# Altium footprint library DPAK.PcbLib: 9 footprints
Each footprint in its own frame and in the unit in brackets; x right, y up, seen from the top. Pads: shape width x height; smd on the part's side, far side on the other; paste and mask are expansions set on the pad; w line width, h text height; cw(c..) or ccw(c..) is an arc to the next point about the centre after c.
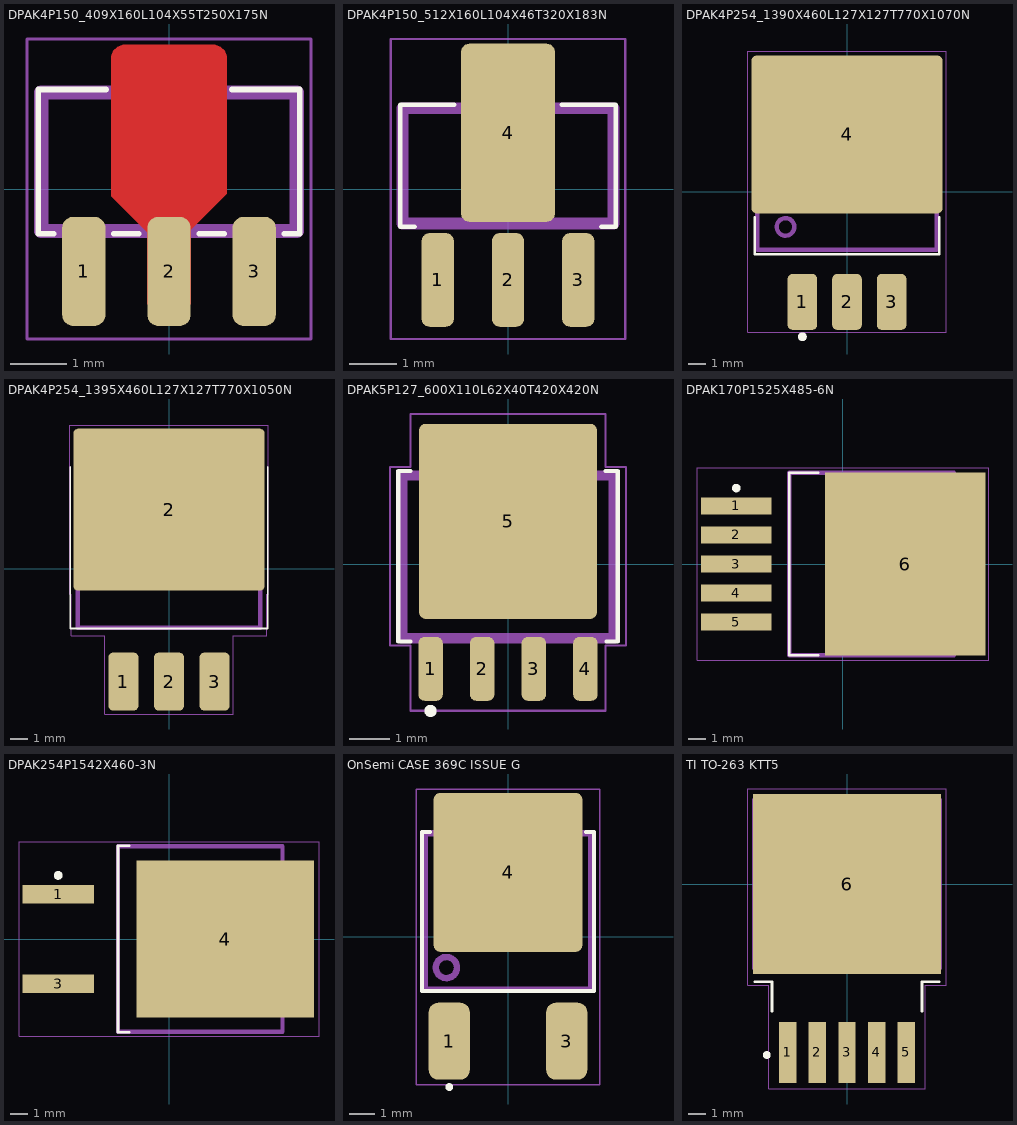
[diagram p0: the footprints below, top view; thin cyan lines are the x and y axes]

## DPAK4P150_409X160L104X55T250X175N [mm] "DPAK, 1.50 mm pitch; 3 pin, 2.44 mm L X 4.50 mm W X 1.60 mm H body"
height 1.6
pads (3):
  rrect50% 0.76x1.92 smd: 1(-1.5,-1.45) 2(0,-1.45) 3(1.5,-1.45)
Top Layer:
  region: -0.381,-2.032 -0.381,-0.762 -1.016,-0.127 -1.016,2.286 -1.016,2.337 -0.977,2.43 -0.906,2.501 -0.813,2.54 -0.762,2.54 0.762,2.54 0.813,2.54 0.906,2.501 0.977,2.43 1.016,2.337 1.016,2.286 1.016,-0.084 0.381,-0.719 0.381,-2.032
Top Overlay:
  lines w0.1: -2.03,-0.79 -2.3,-0.79 -2.3,1.75 -1.11,1.75 ; -0.97,-0.79 -0.53,-0.79 ; 0.53,-0.79 0.97,-0.79 ; 1.11,1.75 2.3,1.75 2.3,-0.79 2.03,-0.79
Top Assembly:
  lines w0.25: -2.25,-0.74 2.25,-0.74 2.25,1.7 -2.25,1.7 -2.25,-0.74
  text ".Designator" at -2,0 h1.5
Top Courtyard:
  circle w0.05: c0,0 r0.25
  lines w0.05: -0.35,0 0.35,0 ; 0,-0.35 0,0.35 ; -2.5,-2.64 -2.5,2.64 2.5,2.64 2.5,-2.64 -2.5,-2.64
3D body "DPAK4P150_409X160L104X55T250X175.STEP": height 1.6, standoff 0, extent -2.25,-2.045 2.25,2.045

## DPAK4P150_512X160L104X46T320X183N [mm] "DPAK, 1.50 mm pitch; 3 pin, 2.45 mm L X 4.50 mm W X 1.60 mm H body"
height 1.6
pads (4):
  rrect49% 0.69x2 smd: 1(-1.5,-1.94) 2(0,-1.94) 3(1.5,-1.94)
  rrect17% 2x3.8 smd paste-3.73: 4(0,1.2)
Top Overlay:
  lines w0.1: -1.995,-0.805 -2.3,-0.805 -2.3,1.795 -1.15,1.795 ; 1.15,1.795 2.3,1.795 2.3,-0.805 1.995,-0.805
Top Assembly:
  lines w0.25: -2.25,-0.735 -2.25,1.725 2.25,1.725 2.25,-0.735 -2.25,-0.735
  text ".Designator" at -1.9,0 h1.5
Top Courtyard:
  circle w0.05: c0,0 r0.25
  lines w0.05: -0.35,0 0.35,0 ; 0,-0.35 0,0.35 ; -2.5,-3.2 -2.5,3.2 2.5,3.2 2.5,-3.2 -2.5,-3.2
3D body "DPAK4P150_512X160L104X46T320X183.STEP": height 1.6, standoff 0, extent -2.25,-2.562 2.25,2.562

## DPAK4P254_1390X460L127X127T770X1070N [mm] "DPAK, 2.54 mm pitch; 3 pin, 8.90 mm L X 10.20 mm W X 4.60 mm H body"
height 4.6
pads (4):
  rrect30% 1.68x3.17 smd: 1(-2.54,-6.27) 2(0,-6.27) 3(2.54,-6.27)
  rrect6% 10.87x8.98 smd paste-10.87: 4(0,3.26)
Top Overlay:
  circle w0.25: c-2.54,-8.255 r0.125
  lines w0.15: -5.25,-1.455 -5.25,-3.56 5.25,-3.56 5.25,-1.455
Top Paste:
  region: 5.19,-0.95 3.86,-0.95 3.86,0.27 5.19,0.27
  region: 5.19,0.85 3.86,0.85 3.86,2.07 5.19,2.07
  region: 5.19,2.65 3.86,2.65 3.86,3.87 5.19,3.87
  region: 5.19,4.45 3.86,4.45 3.86,5.67 5.19,5.67
  region: 5.19,6.25 3.86,6.25 3.86,7.47 5.19,7.47
  region: 3.38,-0.95 2.05,-0.95 2.05,0.27 3.38,0.27
  region: 3.38,0.85 2.05,0.85 2.05,2.07 3.38,2.07
  region: 3.38,2.65 2.05,2.65 2.05,3.87 3.38,3.87
  region: 3.38,4.45 2.05,4.45 2.05,5.67 3.38,5.67
  region: 3.38,6.25 2.05,6.25 2.05,7.47 3.38,7.47
  region: 1.57,-0.95 0.24,-0.95 0.24,0.27 1.57,0.27
  region: 1.57,0.85 0.24,0.85 0.24,2.07 1.57,2.07
  region: 1.57,2.65 0.24,2.65 0.24,3.87 1.57,3.87
  region: 1.57,4.45 0.24,4.45 0.24,5.67 1.57,5.67
  region: 1.57,6.25 0.24,6.25 0.24,7.47 1.57,7.47
  region: -0.24,-0.95 -1.57,-0.95 -1.57,0.27 -0.24,0.27
  region: -0.24,0.85 -1.57,0.85 -1.57,2.07 -0.24,2.07
  region: -0.24,2.65 -1.57,2.65 -1.57,3.87 -0.24,3.87
  region: -0.24,4.45 -1.57,4.45 -1.57,5.67 -0.24,5.67
  region: -0.24,6.25 -1.57,6.25 -1.57,7.47 -0.24,7.47
  region: -2.05,-0.95 -3.38,-0.95 -3.38,0.27 -2.05,0.27
  region: -2.05,0.85 -3.38,0.85 -3.38,2.07 -2.05,2.07
  region: -2.05,2.65 -3.38,2.65 -3.38,3.87 -2.05,3.87
  region: -2.05,4.45 -3.38,4.45 -3.38,5.67 -2.05,5.67
  region: -2.05,6.25 -3.38,6.25 -3.38,7.47 -2.05,7.47
  region: -3.86,-0.95 -5.19,-0.95 -5.19,0.27 -3.86,0.27
  region: -3.86,0.85 -5.19,0.85 -5.19,2.07 -3.86,2.07
  region: -3.86,2.65 -5.19,2.65 -5.19,3.87 -3.86,3.87
  region: -3.86,4.45 -5.19,4.45 -5.19,5.67 -3.86,5.67
  region: -3.86,6.25 -5.19,6.25 -5.19,7.47 -3.86,7.47
Top Assembly:
  circle w0.25: c-3.5,-2 r0.5
  lines w0.25: -5.1,-3.31 5.1,-3.31 5.1,5.59 -5.1,5.59 -5.1,-3.31
  text ".Designator" at 0,0 h1.2
Top Courtyard:
  circle w0.05: c0,0 r0.25
  lines w0.05: -0.35,0 0.35,0 ; 0,-0.35 0,0.35 ; -5.64,-8.01 -5.64,8.01 5.64,8.01 5.64,-8.01 -5.64,-8.01
3D body "DPAK4P254_1390X460L127X127T770X1070.STEP": height 4.6, standoff 0, extent -5.35,-6.95 5.35,6.95

## DPAK4P254_1395X460L127X127T770X1050N [mm] "DPAK, 2.54 mm pitch; 3 pin, 8.90 mm L X 10.20 mm W X 4.60 mm H body"
height 4.6
pads (4):
  rrect30% 1.68x3.22 smd: 1(-2.54,-6.29) 2(0,-6.29) 3(2.54,-6.29)
  rrect6% 10.67x9.03 smd paste-10.67: 2(0,3.29)
Top Overlay:
  lines w0.1: -5.5,5.666 -5.5,-3.334 5.5,-3.334 5.5,5.666
Top Paste:
  region: 5.1,-0.925 3.8,-0.925 3.8,0.305 5.1,0.305
  region: 5.1,0.875 3.8,0.875 3.8,2.105 5.1,2.105
  region: 5.1,2.675 3.8,2.675 3.8,3.905 5.1,3.905
  region: 5.1,4.475 3.8,4.475 3.8,5.705 5.1,5.705
  region: 5.1,6.275 3.8,6.275 3.8,7.505 5.1,7.505
  region: 3.32,-0.925 2.02,-0.925 2.02,0.305 3.32,0.305
  region: 3.32,0.875 2.02,0.875 2.02,2.105 3.32,2.105
  region: 3.32,2.675 2.02,2.675 2.02,3.905 3.32,3.905
  region: 3.32,4.475 2.02,4.475 2.02,5.705 3.32,5.705
  region: 3.32,6.275 2.02,6.275 2.02,7.505 3.32,7.505
  region: 1.54,-0.925 0.24,-0.925 0.24,0.305 1.54,0.305
  region: 1.54,0.875 0.24,0.875 0.24,2.105 1.54,2.105
  region: 1.54,2.675 0.24,2.675 0.24,3.905 1.54,3.905
  region: 1.54,4.475 0.24,4.475 0.24,5.705 1.54,5.705
  region: 1.54,6.275 0.24,6.275 0.24,7.505 1.54,7.505
  region: -0.24,-0.925 -1.54,-0.925 -1.54,0.305 -0.24,0.305
  region: -0.24,0.875 -1.54,0.875 -1.54,2.105 -0.24,2.105
  region: -0.24,2.675 -1.54,2.675 -1.54,3.905 -0.24,3.905
  region: -0.24,4.475 -1.54,4.475 -1.54,5.705 -0.24,5.705
  region: -0.24,6.275 -1.54,6.275 -1.54,7.505 -0.24,7.505
  region: -2.02,-0.925 -3.32,-0.925 -3.32,0.305 -2.02,0.305
  region: -2.02,0.875 -3.32,0.875 -3.32,2.105 -2.02,2.105
  region: -2.02,2.675 -3.32,2.675 -3.32,3.905 -2.02,3.905
  region: -2.02,4.475 -3.32,4.475 -3.32,5.705 -2.02,5.705
  region: -2.02,6.275 -3.32,6.275 -3.32,7.505 -2.02,7.505
  region: -3.8,-0.925 -5.1,-0.925 -5.1,0.305 -3.8,0.305
  region: -3.8,0.875 -5.1,0.875 -5.1,2.105 -3.8,2.105
  region: -3.8,2.675 -5.1,2.675 -5.1,3.905 -3.8,3.905
  region: -3.8,4.475 -5.1,4.475 -5.1,5.705 -3.8,5.705
  region: -3.8,6.275 -5.1,6.275 -5.1,7.505 -3.8,7.505
Top Assembly:
  lines w0.25: -5.1,-3.284 5.1,-3.284 5.1,5.616 -5.1,5.616 -5.1,-3.284
  text ".Designator" at -2.8,0 h1.5
Top Courtyard:
  circle w0.05: c0,0 r0.25
  lines w0.05: -0.35,0 0.35,0 ; 0,-0.35 0,0.35 ; -5.535,-1.425 -5.535,8.005 5.535,8.005 5.535,-1.425 5.45,-1.425 5.45,-3.74 3.58,-3.74 3.58,-8.1 -3.58,-8.1 -3.58,-3.74 -5.45,-3.74 -5.45,-1.425 -5.535,-1.425
3D body "DPAK4P254_1395X460L127X127T770X1050.STEP": height 4.6, standoff 0, extent -5.25,-6.975 5.25,6.975

## DPAK5P127_600X110L62X40T420X420N [mm] "DPAK, 1.27 mm pitch; 4 pin, 3.95 mm L X 5.10 mm W X 1.10 mm H body"
height 1.1
pads (5):
  rrect50% 0.6x1.57 smd: 1(-1.905,-2.57) 2(-0.635,-2.57) 3(0.635,-2.57) 4(1.905,-2.57)
  rrect7% 4.37x4.8 smd paste-4.8: 5(0,1.06)
Top Overlay:
  circle w0.15: c-1.905,-3.605 r0.075
  lines w0.1: -2.4,-1.9 -2.7,-1.9 -2.7,2.3 -2.4,2.3 ; 2.4,2.3 2.7,2.3 2.7,-1.9 2.425,-1.9
Top Paste:
  region: 1.855,-1.005 0.335,-1.005 0.335,0.725 1.855,0.725
  region: 1.855,1.395 0.335,1.395 0.335,3.125 1.855,3.125
  region: -0.335,-1.005 -1.855,-1.005 -1.855,0.725 -0.335,0.725
  region: -0.335,1.395 -1.855,1.395 -1.855,3.125 -0.335,3.125
Top Assembly:
  lines w0.25: -2.6,-1.815 2.6,-1.815 2.6,2.185 -2.6,2.185 -2.6,-1.815
  text ".Designator" at -2,0 h1.5
Top Courtyard:
  circle w0.05: c0,0 r0.25
  lines w0.05: -0.35,0 0.35,0 ; 0,-0.35 0,0.35 ; -2.9,-2 -2.4,-2 -2.4,-3.6 2.4,-3.6 2.4,-2 2.9,-2 2.9,2.4 2.4,2.4 2.4,3.7 -2.4,3.7 -2.4,2.4 -2.9,2.4 -2.9,-2
3D body "DPAK5P127_600X110L62X40T420X420.STEP": height 1.14, standoff 0, extent -2.55,-3 2.55,3

## DPAK170P1525X485-6N [mm] "D2-PAK, 6-Pads, Body 7,93x8,71mm (max), IPC Medium Density"
height 4.85
pads (6):
  rect 4.15x1 smd: 1(-6.25,3.4) 2(-6.25,1.7) 3(-6.25,0) 4(-6.25,-1.7) 5(-6.25,-3.4)
  rect 9.4x10.75 smd: 6(3.65,0)
Top Overlay:
  circle w0.25: c-6.25,4.45 r0.125
  lines w0.15: -1.45,-5.35 -3.15,-5.35 -3.15,5.35 -1.45,5.35
Top Assembly:
  lines w0.25: -3.15,-5.35 6.5,-5.35 6.5,5.35 -3.15,5.35 -3.15,-5.35
Top Courtyard:
  lines w0.05: -8.55,-5.625 8.55,-5.625 8.55,5.625 -8.55,5.625 -8.55,-5.625
  lines w0.1: -0.5,0 0.5,0 ; 0,-0.5 0,0.5
3D body "DPAK170P1525X485-6N.step": height 4.85, standoff 0, extent -7.18,-5.35 8.07,5.35

## DPAK254P1542X460-3N [mm] "D2-PAK, 3-Pads, Body 7,78x8,64mm (max), IPC Medium Density"
height 4.6
pads (3):
  rect 4.05x1.05 smd: 1(-6.3,2.54) 3(-6.3,-2.54)
  rect 10.1x8.95 smd: 4(3.2,0)
Top Overlay:
  circle w0.25: c-6.3,3.615 r0.125
  lines w0.15: -2.25,-5.3 -2.9,-5.3 -2.9,5.3 -2.25,5.3
Top Assembly:
  lines w0.25: -2.9,-5.275 -2.9,5.275 6.45,5.275 6.45,-5.275 -2.9,-5.275
  text ".Designator" at -1.278,-0.339 h1.5
Top Courtyard:
  lines w0.05: -8.525,-5.525 -8.525,5.525 8.525,5.525 8.525,-5.525 -8.525,-5.525
  lines w0.1: -0.5,0 0.5,0 ; 0,-0.5 0,0.5
3D body "DPAK254P1542X460-3N.step": height 4.6, standoff 0, extent -7.29,-5.275 8.135,5.275

## OnSemi CASE 369C ISSUE G [mm] "DPAK, 2.29 mm pitch; 2 pin, 6.095 mm L X 6.54 mm W X 2.38 mm H body"
height 2.38
pads (3):
  rrect45% 1.6x3 smd: 1(-2.29,-4.07) 3(2.29,-4.07)
  rrect9% 5.8x6.2 smd paste-6.09: 4(0,2.51)
Top Overlay:
  circle w0.15: c-2.29,-5.86 r0.075
  lines w0.15: -3.04,4.082 -3.35,4.082 -3.35,-2.117 3.35,-2.117 3.35,4.082 3.04,4.082
Top Paste:
  region: 2.365,-0.24 0.445,-0.24 0.445,1.2 2.365,1.2
  region: 2.365,1.79 0.445,1.79 0.445,3.23 2.365,3.23
  region: 2.365,3.82 0.445,3.82 0.445,5.26 2.365,5.26
  region: -0.445,-0.24 -2.365,-0.24 -2.365,1.2 -0.445,1.2
  region: -0.445,1.79 -2.365,1.79 -2.365,3.23 -0.445,3.23
  region: -0.445,3.82 -2.365,3.82 -2.365,5.26 -0.445,5.26
Top Assembly:
  circle w0.25: c-2.4,-1.2 r0.412
  lines w0.25: -3.25,-2.067 3.25,-2.067 3.25,4.032 -3.25,4.032 -3.25,-2.067
  text ".Designator" at -3.378,-0.339 h1.5
Top Courtyard:
  circle w0.05: c0,0 r0.25
  lines w0.05: -0.35,0 0.35,0 ; 0,-0.35 0,0.35 ; -3.57,-5.76 -3.57,5.76 3.57,5.76 3.57,-5.76 -3.57,-5.76
3D body "CASE 369C ISSUE G.STEP": height 2.4, standoff -0.11, extent -3.25,-4.953 3.25,4.953

## TI TO-263 KTT5 [mm] "TI TO-263 DPAK"
height 4.9
pads (6):
  rect 1x3.5 smd: 1(-3.4,-9.652) 2(-1.7,-9.652) 3(0,-9.652) 4(1.7,-9.652) 5(3.4,-9.652)
  rect 10.8x10.3 smd: 6(0,0)
Top Overlay:
  circle w0.25: c-4.6,-9.8 r0.1
  lines w0.15: -5.3,-5.6 -4.3,-5.6 -4.3,-7.3 ; 4.3,-7.3 4.3,-5.6 5.3,-5.6
Top Assembly:
  circle w0.25: c-4,-3.6 r0.707
  lines w0.25: -5.334,-4.826 5.334,-4.826 5.334,4.826 -5.334,4.826 -5.334,-4.826
  text ".Designator" at -3.378,-0.339 h1.5
Top Courtyard:
  circle w0.05: c0,0 r0.25
  lines w0.05: -0.35,0 0.35,0 ; 0,-0.35 0,0.35 ; -5.7,-5.8 -4.5,-5.8 -4.5,-11.75 4.5,-11.75 4.5,-5.8 5.7,-5.8 5.7,5.45 -5.7,5.45 -5.7,-5.8
3D body "KTT5.step": height 1.7, standoff -0.05, extent -5.334,-7.43 5.334,4.829